# Altium footprint library SINGLE_FET_MOSFET.PcbLib: 3 footprints
Each footprint in its own frame and in the unit in brackets; x right, y up, seen from the top. Pads: shape width x height; smd on the part's side, far side on the other; paste and mask are expansions set on the pad; w line width, h text height; cw(c..) or ccw(c..) is an arc to the next point about the centre after c.
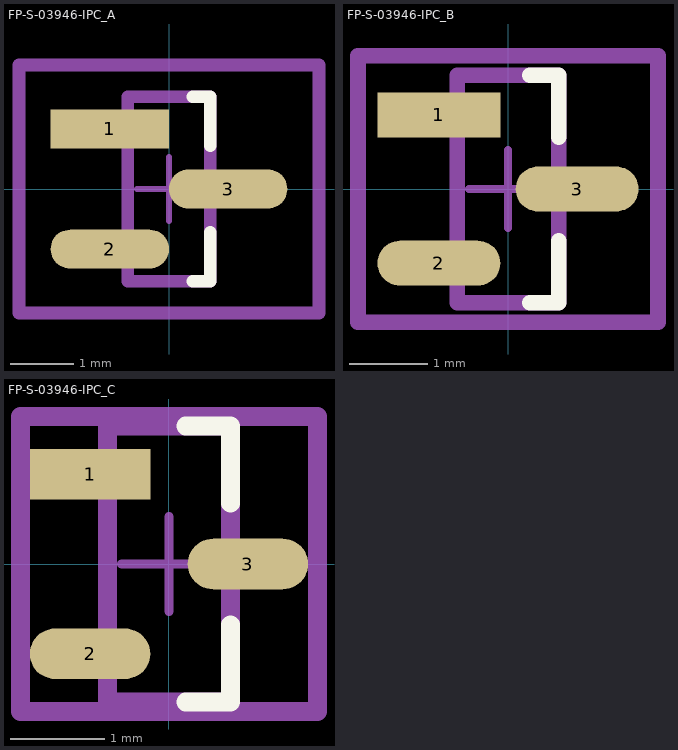
[diagram p0: the footprints below, top view; thin cyan lines are the x and y axes]

## FP-S-03946-IPC_A [mm] "MOSFET N-CH 8V 6A SOT-23"
pads (3):
  rect 1.874x0.616 smd paste+0 mask+0: 1(-0.935,0.95)
  rrect100% 1.874x0.616 smd paste+0 mask+0: 2(-0.935,-0.95) 3(0.935,0)
Top Overlay:
  lines w0.2: 0.377,-1.46 0.65,-1.46 0.65,-0.683 ; 0.377,1.46 0.65,1.46 0.65,0.683
Top Assembly:
  lines w0.2: -2.372,-1.96 -2.372,1.96 2.372,1.96 2.372,-1.96 -2.372,-1.96
Top Component Center:
  lines w0.1: -0.5,0 0.5,0 ; 0,-0.5 0,0.5
Top Component Outline:
  lines w0.2: -0.65,-1.46 -0.65,1.46 0.65,1.46 0.65,-1.46 -0.65,-1.46
Top Courtyard:
  lines w0.2: -2.372,-1.96 2.372,-1.96 2.372,1.96 -2.372,1.96 -2.372,-1.96
Top Designator:
  text ".Designator" at -7.63,-0.521 h1.52
3D body "Trans_Vishay_SI2342DS-T1-GE3_eec.STEP": height 0.25, standoff 0, extent -2.372,-1.96 2.372,1.96

## FP-S-03946-IPC_B [mm] "MOSFET N-CH 8V 6A SOT-23"
pads (3):
  rect 1.574x0.576 smd paste+0 mask+0: 1(-0.885,0.95)
  rrect100% 1.574x0.576 smd paste+0 mask+0: 2(-0.885,-0.95) 3(0.885,0)
Top Overlay:
  lines w0.2: 0.277,-1.46 0.65,-1.46 0.65,-0.663 ; 0.277,1.46 0.65,1.46 0.65,0.663
Top Assembly:
  lines w0.2: -1.922,-1.71 1.922,-1.71 1.922,1.71 -1.922,1.71 -1.922,-1.71
Top Component Center:
  lines w0.1: -0.5,0 0.5,0 ; 0,-0.5 0,0.5
Top Component Outline:
  lines w0.2: -0.65,-1.46 0.65,-1.46 0.65,1.46 -0.65,1.46 -0.65,-1.46
Top Courtyard:
  lines w0.2: -1.922,-1.71 -1.922,1.71 1.922,1.71 1.922,-1.71 -1.922,-1.71
Top Designator:
  text ".Designator" at -7.63,-0.521 h1.52
3D body "Trans_Vishay_SI2342DS-T1-GE3_eec.STEP": height 0.25, standoff 0, extent -1.922,-1.71 1.922,1.71

## FP-S-03946-IPC_C [mm] "MOSFET N-CH 8V 6A SOT-23"
pads (3):
  rect 1.274x0.536 smd paste+0 mask+0: 1(-0.835,0.95)
  rrect100% 1.274x0.536 smd paste+0 mask+0: 2(-0.835,-0.95) 3(0.835,0)
Top Overlay:
  lines w0.2: 0.177,-1.46 0.65,-1.46 0.65,-0.643 ; 0.177,1.46 0.65,1.46 0.65,0.643
Top Assembly:
  lines w0.2: -1.572,-1.56 1.572,-1.56 1.572,1.56 -1.572,1.56 -1.572,-1.56
Top Component Center:
  lines w0.1: -0.5,0 0.5,0 ; 0,-0.5 0,0.5
Top Component Outline:
  lines w0.2: -0.65,-1.46 -0.65,1.46 0.65,1.46 0.65,-1.46 -0.65,-1.46
Top Courtyard:
  lines w0.2: -1.572,-1.56 -1.572,1.56 1.572,1.56 1.572,-1.56 -1.572,-1.56
Top Designator:
  text ".Designator" at -7.63,-0.521 h1.52
3D body "Trans_Vishay_SI2342DS-T1-GE3_eec.STEP": height 0.25, standoff 0, extent -1.572,-1.56 1.572,1.56